# Altium integrated library TL494-PWM-MODULE.IntLib: 1 symbol
Pins are listed as number, name and electrical type; pins without a type are passive.

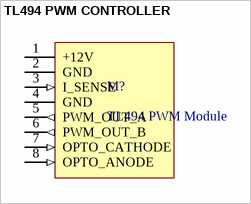
[diagram p0: symbol TL494 PWM CONTROLLER]

## TL494 PWM CONTROLLER
designator M?, comment TL494 PWM Module
TL494 16KHz-60KHz adjustable frequency, duty. With voltage and currenct control inverter pre-driver module; MF: EGmicro; MP: EGS002; Package: Package; Price: None; Value: *; SnapEDA_Link: https://www.snapeda.com/parts/EGS002/EGmicro/view-part/?ref=snap; Availability: Not in stock; Check_prices: https://www.snapeda.com/parts/EGS002/EGmicro/view-part/?ref=eda
footprint TL494-PWM-MODULE
pins: 1 +12V (power), 2 GND (power), 3 I_SENSE (in), 4 GND, 5 PWM_OUT_A (out), 6 PWM_OUT_B (out), 7 OPTO_CATHODE (in), 8 OPTO_ANODE (in)